# Altium schematic symbol library DHT11.SchLib: 2 symbols
Pins are listed as number, name and electrical type; pins without a type are passive.

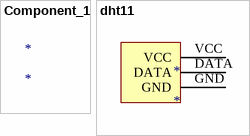
[diagram p0: symbols Component_1 to dht11]

## Component_1
designator *

## dht11
designator *
pins: DATA, GND, VCC